# EAGLE library part AVR-ISP-6-EDGE (library evallib)
6 pin edge connector for ISP with ATMEL MCUs. Developed by Craig Moates (craig at moates dot net). Library by David Blundell (blundar at gmail dot com). Often, even a 6 pin header is really inconvenient for board layout and/or production. This SMD-only header is our de-facto standard for using an edge connector for programming with the help of a 6pin/10pin to edge card adapter.
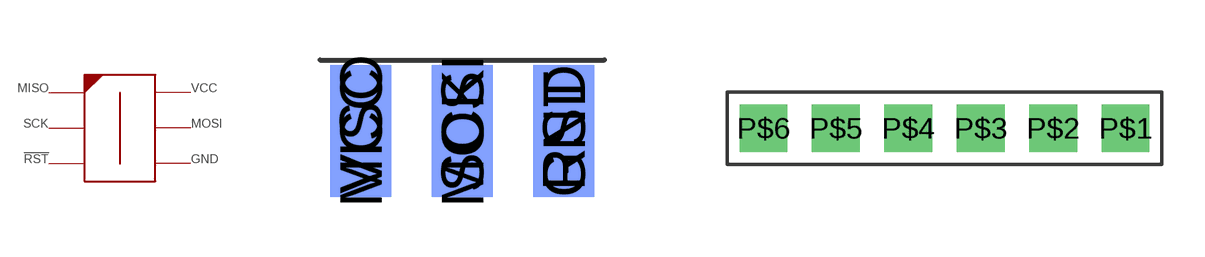
[diagram p0: symbol with the pads of 6PAD_ISP; footprints 6PAD_ISP, 6ROW_MY_ISP]

Designator prefix -

## AVR-ISP-6-EDGESMD_PADS  [6PAD_ISP]
GND  GND
MISO  MISO
MOSI  MOSI
RST  !RST
SCK  SCK
VCC  VCC

## AVR-ISP-6-EDGEDIP_PADS  [6ROW_MY_ISP]
P$1  GND
P$2  VCC
P$3  !RST
P$4  SCK
P$5  MISO
P$6  MOSI

## Footprint 6PAD_ISP (pad centres in mm)
smd 1.524 x 3.302 bottom: GND 2.54,0; MOSI 0,0; VCC -2.54,0
smd 1.524 x 3.302: MISO -2.54,0; RST 2.54,0; SCK 0,0

## Footprint 6ROW_MY_ISP (pad centres in mm)
drill 0.8 pad 1.676 square: P$1 0,0; P$2 -2.54,0; P$3 -5.08,0; P$4 -7.62,0; P$5 -10.16,0; P$6 -12.7,0